# Altium schematic symbol library kmilo17pet-LT_ChargePump.SchLib: 599 symbols (part 1 of 29)
Pins are listed as number, name and electrical type; pins without a type are passive.

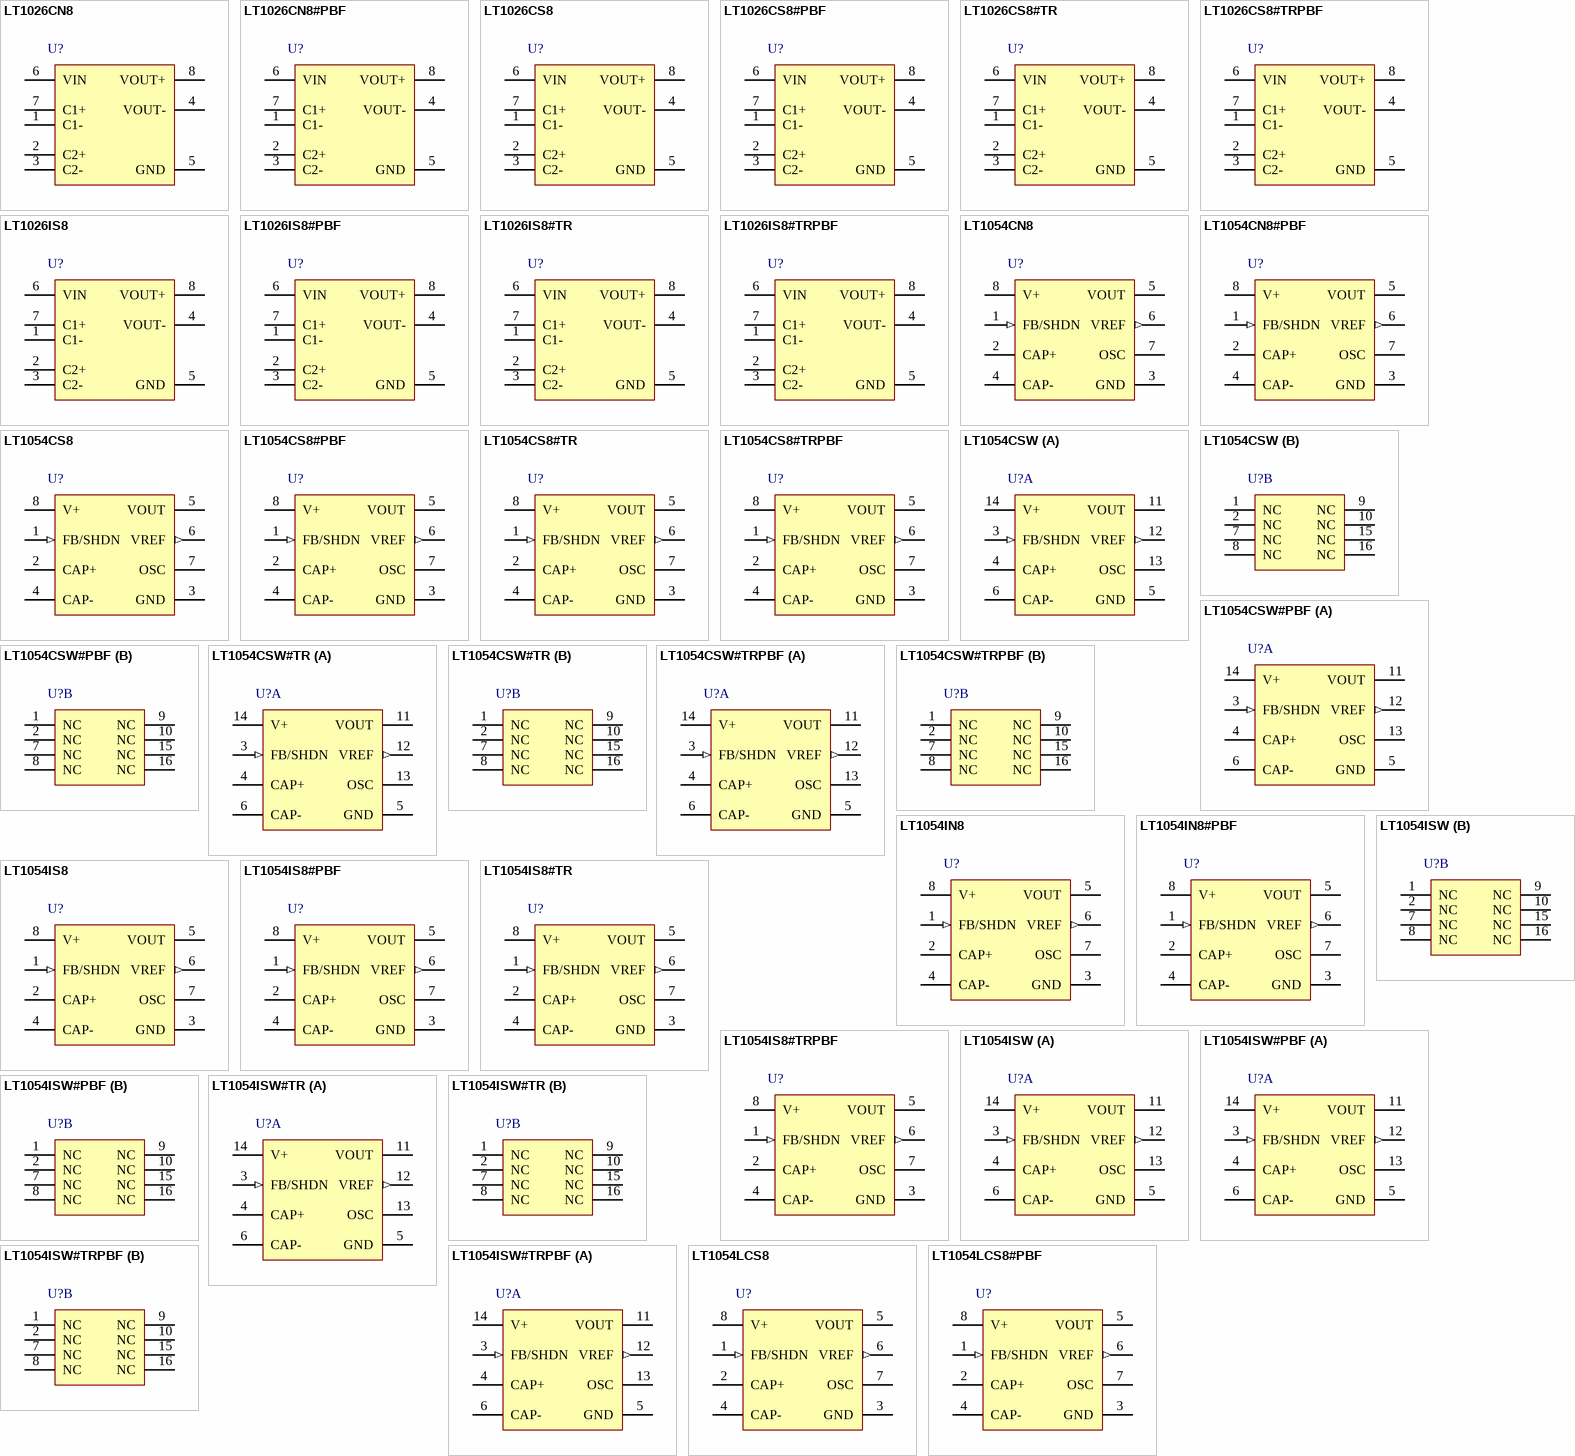
[diagram p0: symbols LT1026CN8 to LT1054LCS8#PBF]

## LT1026CN8
designator U?
Voltage Converter, 4 to 10 V Vin, 8-pin DIP (N8-8), 0 to 70 degC; Manufacturer: Linear Technology; PartNumber: LT1026CN8; Ishutdown(uA): 1; Isupply(mA): 7; Max Iout(mA): 15; Vin Max(V): 10; Vin Min(V): 4; Voutput: 2Vin, -2Vin; DatasheetVersion: Rev. B; PackageVersion: Rev. I, 07/2011; PackageReference: N8-8; PackageDescription: 8-Pin PDIP, Body 10.16 x 6.48 mm, Pitch 2.54 mm; Supplier 1: Digi-Key; Supplier Part Number 1: LT1026CN8-ND; RoHS: FALSE; Mounting Technology: Through Hole; ComponentLink1Description: Manufacturer URL; ComponentLink1URL: http://www.linear.com/; ComponentLink2Description: Datasheet; ComponentLink2URL: http://cds.linear.com/docs/en/datasheet/1026fb.pdf; ComponentLink3Description: Package Specification; ComponentLink3URL: http://www.linear.com/docs/en/packaging/05081510_I_N8.pdf
footprint LT-N8-8 (DIP, 8-Leads, Body 10.15x6.85mm, Pitch 2.54mm)
pins: 1 C1-, 2 C2+, 3 C2-, 4 VOUT- (power), 5 GND (power), 6 VIN (power), 7 C1+, 8 VOUT+ (power)

## LT1026CN8#PBF
designator U?
Voltage Converter, 4 to 10 V Vin, 8-pin DIP (N8-8), 0 to 70 degC, Pb-Free; Manufacturer: Linear Technology; PartNumber: LT1026CN8#PBF; Ishutdown(uA): 1; Isupply(mA): 7; Max Iout(mA): 15; Vin Max(V): 10; Vin Min(V): 4; Voutput: 2Vin, -2Vin; DatasheetVersion: Rev. B; PackageVersion: Rev. I, 07/2011; PackageReference: N8-8; PackageDescription: 8-Pin PDIP, Body 10.16 x 6.48 mm, Pitch 2.54 mm; Supplier 1: Digi-Key; Supplier Part Number 1: LT1026CN8#PBF-ND; Supplier 2: Farnell; Supplier Part Number 2: 1663336; Supplier 3: Newark; Supplier Part Number 3: 57M1023; RoHS: TRUE; Mounting Technology: Through Hole; ComponentLink1Description: Manufacturer URL; ComponentLink1URL: http://www.linear.com/; ComponentLink2Description: Datasheet; ComponentLink2URL: http://cds.linear.com/docs/en/datasheet/1026fb.pdf; ComponentLink3Description: Package Specification; ComponentLink3URL: http://www.linear.com/docs/en/packaging/05081510_I_N8.pdf
footprint LT-N8-8 (DIP, 8-Leads, Body 10.15x6.85mm, Pitch 2.54mm)
pins: 1 C1-, 2 C2+, 3 C2-, 4 VOUT- (power), 5 GND (power), 6 VIN (power), 7 C1+, 8 VOUT+ (power)

## LT1026CS8
designator U?
Voltage Converter, 4 to 10 V Vin, 8-pin SOIC (S8-8), 0 to 70 degC; Manufacturer: Linear Technology; PartNumber: LT1026CS8; Ishutdown(uA): 1; Isupply(mA): 7; Max Iout(mA): 15; Vin Max(V): 10; Vin Min(V): 4; Voutput: 2Vin, -2Vin; DatasheetVersion: Rev. B; PackageVersion: Rev. G, 03/2012; PackageReference: S8-8; PackageDescription: 8-Pin Plastic Small Outline (Narrow .150 Inch), Body 4.9 x 3.9 mm, Pitch 1.27 mm; Supplier 1: Digi-Key; Supplier Part Number 1: LT1026CS8-ND; RoHS: FALSE; Mounting Technology: Surface Mount; ComponentLink1Description: Manufacturer URL; ComponentLink1URL: http://www.linear.com/; ComponentLink2Description: Datasheet; ComponentLink2URL: http://cds.linear.com/docs/en/datasheet/1026fb.pdf; ComponentLink3Description: Package Specification; ComponentLink3URL: http://cds.linear.com/docs/en/packaging/05081610_G_SO8.pdf
footprint LT-S8-8_N (SOIC, 8-Leads, Body 5x4mm, Pitch 1.27mm, IPC Medium Density)
footprint LT-S8-8_L (SOIC, 8-Leads, Body 5x4mm, Pitch 1.27mm, IPC High Density)
footprint LT-S8-8_M (SOIC, 8-Leads, Body 5x4mm, Pitch 1.27mm, IPC Low Density)
pins: 1 C1-, 2 C2+, 3 C2-, 4 VOUT- (power), 5 GND (power), 6 VIN (power), 7 C1+, 8 VOUT+ (power)

## LT1026CS8#PBF
designator U?
Voltage Converter, 4 to 10 V Vin, 8-pin SOIC (S8-8), 0 to 70 degC, Pb-Free; Manufacturer: Linear Technology; PartNumber: LT1026CS8#PBF; Ishutdown(uA): 1; Isupply(mA): 7; Max Iout(mA): 15; Vin Max(V): 10; Vin Min(V): 4; Voutput: 2Vin, -2Vin; DatasheetVersion: Rev. B; PackageVersion: Rev. G, 03/2012; PackageReference: S8-8; PackageDescription: 8-Pin Plastic Small Outline (Narrow .150 Inch), Body 4.9 x 3.9 mm, Pitch 1.27 mm; Supplier 1: Digi-Key; Supplier Part Number 1: LT1026CS8#PBF-ND; Supplier 2: Farnell; Supplier Part Number 2: 1273660; Supplier 3: Newark; Supplier Part Number 3: 57M1025; RoHS: TRUE; Mounting Technology: Surface Mount; ComponentLink1Description: Manufacturer URL; ComponentLink1URL: http://www.linear.com/; ComponentLink2Description: Datasheet; ComponentLink2URL: http://cds.linear.com/docs/en/datasheet/1026fb.pdf; ComponentLink3Description: Package Specification; ComponentLink3URL: http://cds.linear.com/docs/en/packaging/05081610_G_SO8.pdf
footprint LT-S8-8_N (SOIC, 8-Leads, Body 5x4mm, Pitch 1.27mm, IPC Medium Density)
footprint LT-S8-8_L (SOIC, 8-Leads, Body 5x4mm, Pitch 1.27mm, IPC High Density)
footprint LT-S8-8_M (SOIC, 8-Leads, Body 5x4mm, Pitch 1.27mm, IPC Low Density)
pins: 1 C1-, 2 C2+, 3 C2-, 4 VOUT- (power), 5 GND (power), 6 VIN (power), 7 C1+, 8 VOUT+ (power)

## LT1026CS8#TR
designator U?
Voltage Converter, 4 to 10 V Vin, 8-pin SOIC (S8-8), 0 to 70 degC, Tape and Reel; Manufacturer: Linear Technology; PartNumber: LT1026CS8#TR; Ishutdown(uA): 1; Isupply(mA): 7; Max Iout(mA): 15; Vin Max(V): 10; Vin Min(V): 4; Voutput: 2Vin, -2Vin; DatasheetVersion: Rev. B; PackageVersion: Rev. G, 03/2012; PackageReference: S8-8; PackageDescription: 8-Pin Plastic Small Outline (Narrow .150 Inch), Body 4.9 x 3.9 mm, Pitch 1.27 mm; Supplier 1: Digi-Key; Supplier Part Number 1: LT1026CS8#TR-ND; Packing: Tape and Reel; RoHS: FALSE; Mounting Technology: Surface Mount; ComponentLink1Description: Manufacturer URL; ComponentLink1URL: http://www.linear.com/; ComponentLink2Description: Datasheet; ComponentLink2URL: http://cds.linear.com/docs/en/datasheet/1026fb.pdf; ComponentLink3Description: Package Specification; ComponentLink3URL: http://cds.linear.com/docs/en/packaging/05081610_G_SO8.pdf
footprint LT-S8-8_N (SOIC, 8-Leads, Body 5x4mm, Pitch 1.27mm, IPC Medium Density)
footprint LT-S8-8_L (SOIC, 8-Leads, Body 5x4mm, Pitch 1.27mm, IPC High Density)
footprint LT-S8-8_M (SOIC, 8-Leads, Body 5x4mm, Pitch 1.27mm, IPC Low Density)
pins: 1 C1-, 2 C2+, 3 C2-, 4 VOUT- (power), 5 GND (power), 6 VIN (power), 7 C1+, 8 VOUT+ (power)

## LT1026CS8#TRPBF
designator U?
Voltage Converter, 4 to 10 V Vin, 8-pin SOIC (S8-8), 0 to 70 degC, Pb-Free, Tape and Reel; Manufacturer: Linear Technology; PartNumber: LT1026CS8#TRPBF; Ishutdown(uA): 1; Isupply(mA): 7; Max Iout(mA): 15; Vin Max(V): 10; Vin Min(V): 4; Voutput: 2Vin, -2Vin; DatasheetVersion: Rev. B; PackageVersion: Rev. G, 03/2012; PackageReference: S8-8; PackageDescription: 8-Pin Plastic Small Outline (Narrow .150 Inch), Body 4.9 x 3.9 mm, Pitch 1.27 mm; Supplier 1: Digi-Key; Supplier Part Number 1: LT1026CS8#TRPBF-ND; Packing: Tape and Reel; RoHS: TRUE; Mounting Technology: Surface Mount; ComponentLink1Description: Manufacturer URL; ComponentLink1URL: http://www.linear.com/; ComponentLink2Description: Datasheet; ComponentLink2URL: http://cds.linear.com/docs/en/datasheet/1026fb.pdf; ComponentLink3Description: Package Specification; ComponentLink3URL: http://cds.linear.com/docs/en/packaging/05081610_G_SO8.pdf
footprint LT-S8-8_N (SOIC, 8-Leads, Body 5x4mm, Pitch 1.27mm, IPC Medium Density)
footprint LT-S8-8_L (SOIC, 8-Leads, Body 5x4mm, Pitch 1.27mm, IPC High Density)
footprint LT-S8-8_M (SOIC, 8-Leads, Body 5x4mm, Pitch 1.27mm, IPC Low Density)
pins: 1 C1-, 2 C2+, 3 C2-, 4 VOUT- (power), 5 GND (power), 6 VIN (power), 7 C1+, 8 VOUT+ (power)

## LT1026IS8
designator U?
Voltage Converter, 4 to 10 V Vin, 8-pin SOIC (S8-8), -40 to 85 degC; Manufacturer: Linear Technology; PartNumber: LT1026IS8; Ishutdown(uA): 1; Isupply(mA): 7; Max Iout(mA): 15; Vin Max(V): 10; Vin Min(V): 4; Voutput: 2Vin, -2Vin; DatasheetVersion: Rev. B; PackageVersion: Rev. G, 03/2012; PackageReference: S8-8; PackageDescription: 8-Pin Plastic Small Outline (Narrow .150 Inch), Body 4.9 x 3.9 mm, Pitch 1.27 mm; Supplier 1: Digi-Key; Supplier Part Number 1: LT1026IS8-ND; Supplier 2: Newark; Supplier Part Number 2: 57M1028; RoHS: FALSE; Mounting Technology: Surface Mount; ComponentLink1Description: Manufacturer URL; ComponentLink1URL: http://www.linear.com/; ComponentLink2Description: Datasheet; ComponentLink2URL: http://cds.linear.com/docs/en/datasheet/1026fb.pdf; ComponentLink3Description: Package Specification; ComponentLink3URL: http://cds.linear.com/docs/en/packaging/05081610_G_SO8.pdf
footprint LT-S8-8_N (SOIC, 8-Leads, Body 5x4mm, Pitch 1.27mm, IPC Medium Density)
footprint LT-S8-8_L (SOIC, 8-Leads, Body 5x4mm, Pitch 1.27mm, IPC High Density)
footprint LT-S8-8_M (SOIC, 8-Leads, Body 5x4mm, Pitch 1.27mm, IPC Low Density)
pins: 1 C1-, 2 C2+, 3 C2-, 4 VOUT- (power), 5 GND (power), 6 VIN (power), 7 C1+, 8 VOUT+ (power)

## LT1026IS8#PBF
designator U?
Voltage Converter, 4 to 10 V Vin, 8-pin SOIC (S8-8), -40 to 85 degC, Pb-Free; Manufacturer: Linear Technology; PartNumber: LT1026IS8#PBF; Ishutdown(uA): 1; Isupply(mA): 7; Max Iout(mA): 15; Vin Max(V): 10; Vin Min(V): 4; Voutput: 2Vin, -2Vin; DatasheetVersion: Rev. B; PackageVersion: Rev. G, 03/2012; PackageReference: S8-8; PackageDescription: 8-Pin Plastic Small Outline (Narrow .150 Inch), Body 4.9 x 3.9 mm, Pitch 1.27 mm; Supplier 1: Digi-Key; Supplier Part Number 1: LT1026IS8#PBF-ND; Supplier 2: Newark; Supplier Part Number 2: 57M1029; RoHS: TRUE; Mounting Technology: Surface Mount; ComponentLink1Description: Manufacturer URL; ComponentLink1URL: http://www.linear.com/; ComponentLink2Description: Datasheet; ComponentLink2URL: http://cds.linear.com/docs/en/datasheet/1026fb.pdf; ComponentLink3Description: Package Specification; ComponentLink3URL: http://cds.linear.com/docs/en/packaging/05081610_G_SO8.pdf
footprint LT-S8-8_N (SOIC, 8-Leads, Body 5x4mm, Pitch 1.27mm, IPC Medium Density)
footprint LT-S8-8_L (SOIC, 8-Leads, Body 5x4mm, Pitch 1.27mm, IPC High Density)
footprint LT-S8-8_M (SOIC, 8-Leads, Body 5x4mm, Pitch 1.27mm, IPC Low Density)
pins: 1 C1-, 2 C2+, 3 C2-, 4 VOUT- (power), 5 GND (power), 6 VIN (power), 7 C1+, 8 VOUT+ (power)

## LT1026IS8#TR
designator U?
Voltage Converter, 4 to 10 V Vin, 8-pin SOIC (S8-8), -40 to 85 degC, Tape and Reel; Manufacturer: Linear Technology; PartNumber: LT1026IS8#TR; Ishutdown(uA): 1; Isupply(mA): 7; Max Iout(mA): 15; Vin Max(V): 10; Vin Min(V): 4; Voutput: 2Vin, -2Vin; DatasheetVersion: Rev. B; PackageVersion: Rev. G, 03/2012; PackageReference: S8-8; PackageDescription: 8-Pin Plastic Small Outline (Narrow .150 Inch), Body 4.9 x 3.9 mm, Pitch 1.27 mm; Supplier 1: Digi-Key; Supplier Part Number 1: LT1026IS8#TR-ND; Packing: Tape and Reel; RoHS: FALSE; Mounting Technology: Surface Mount; ComponentLink1Description: Manufacturer URL; ComponentLink1URL: http://www.linear.com/; ComponentLink2Description: Datasheet; ComponentLink2URL: http://cds.linear.com/docs/en/datasheet/1026fb.pdf; ComponentLink3Description: Package Specification; ComponentLink3URL: http://cds.linear.com/docs/en/packaging/05081610_G_SO8.pdf
footprint LT-S8-8_N (SOIC, 8-Leads, Body 5x4mm, Pitch 1.27mm, IPC Medium Density)
footprint LT-S8-8_L (SOIC, 8-Leads, Body 5x4mm, Pitch 1.27mm, IPC High Density)
footprint LT-S8-8_M (SOIC, 8-Leads, Body 5x4mm, Pitch 1.27mm, IPC Low Density)
pins: 1 C1-, 2 C2+, 3 C2-, 4 VOUT- (power), 5 GND (power), 6 VIN (power), 7 C1+, 8 VOUT+ (power)

## LT1026IS8#TRPBF
designator U?
Voltage Converter, 4 to 10 V Vin, 8-pin SOIC (S8-8), -40 to 85 degC, Pb-Free, Tape and Reel; Manufacturer: Linear Technology; PartNumber: LT1026IS8#TRPBF; Ishutdown(uA): 1; Isupply(mA): 7; Max Iout(mA): 15; Vin Max(V): 10; Vin Min(V): 4; Voutput: 2Vin, -2Vin; DatasheetVersion: Rev. B; PackageVersion: Rev. G, 03/2012; PackageReference: S8-8; PackageDescription: 8-Pin Plastic Small Outline (Narrow .150 Inch), Body 4.9 x 3.9 mm, Pitch 1.27 mm; Supplier 1: Digi-Key; Supplier Part Number 1: LT1026IS8#TRPBF-ND; Packing: Tape and Reel; RoHS: TRUE; Mounting Technology: Surface Mount; ComponentLink1Description: Manufacturer URL; ComponentLink1URL: http://www.linear.com/; ComponentLink2Description: Datasheet; ComponentLink2URL: http://cds.linear.com/docs/en/datasheet/1026fb.pdf; ComponentLink3Description: Package Specification; ComponentLink3URL: http://cds.linear.com/docs/en/packaging/05081610_G_SO8.pdf
footprint LT-S8-8_N (SOIC, 8-Leads, Body 5x4mm, Pitch 1.27mm, IPC Medium Density)
footprint LT-S8-8_L (SOIC, 8-Leads, Body 5x4mm, Pitch 1.27mm, IPC High Density)
footprint LT-S8-8_M (SOIC, 8-Leads, Body 5x4mm, Pitch 1.27mm, IPC Low Density)
pins: 1 C1-, 2 C2+, 3 C2-, 4 VOUT- (power), 5 GND (power), 6 VIN (power), 7 C1+, 8 VOUT+ (power)

## LT1054CN8
designator U?
Switched-Capacitor Voltage Converter with Regulator, 3.5 to 15 V Vin, Adjustable Vout, 8-pin DIP (N8-8), 0 to 100 degC; Manufacturer: Linear Technology; PartNumber: LT1054CN8; Frequency(kHz): 25; Ishutdown(uA): 100; Isupply(mA): 2.5; Vin Max(V): 15; Vin Min(V): 3.5; Voutput: Adj; DatasheetVersion: Rev. G; PackageVersion: Rev. I, 07/2011; PackageReference: N8-8; PackageDescription: 8-Pin PDIP, Body 10.16 x 6.48 mm, Pitch 2.54 mm; Supplier 1: Digi-Key; Supplier Part Number 1: LT1054CN8-ND; Supplier 2: Newark; Supplier Part Number 2: 57M1181; Max Iout(mA): 100; RoHS: FALSE; Mounting Technology: Through Hole; ComponentLink1Description: Manufacturer URL; ComponentLink1URL: http://www.linear.com/; ComponentLink2Description: Datasheet; ComponentLink2URL: http://cds.linear.com/docs/en/datasheet/1054lfg.pdf; ComponentLink3Description: Package Specification; ComponentLink3URL: http://www.linear.com/docs/en/packaging/05081510_I_N8.pdf
footprint LT-N8-8 (DIP, 8-Leads, Body 10.15x6.85mm, Pitch 2.54mm)
pins: 1 FB/SHDN (in), 2 CAP+ "Pin 2, the positive side of the input capacitor (CIN), is alternately driven between V + and ground. When driven to V+, Pin 2 sources current from V+. When driven to ground Pin 2 sinks current to ground. Pin 4, the negative (See Datasheet)", 3 GND (power), 4 CAP- "Pin 2, the positive side of the input capacitor (CIN), is alternately driven between V + and ground. When driven to V+, Pin 2 sources current from V+. When driven to ground Pin 2 sinks current to ground. Pin 4, the negative (See Datasheet)", 5 VOUT (power) "In addition to being the output pin this pin is also tied to the substrate of the device. Special care must be taken in LT1054 circuits to avoid pulling this pin positive with respect to any of the other pins. Pulling Pin 5 (See Datasheet)", 6 VREF (out) "Reference Output. This pin provides a 2.5V reference point for use in LT1054-based regulator circuits. The temperature coefficient of the reference voltage has been adjusted so that the temperature coefficient of the (See Datasheet)", 7 OSC "Oscillator Pin. This pin can be used to raise or lower the oscillator frequency or to synchronize the device to an external clock. Internally Pin 7 is connected to the oscillator timing capacitor (Ct  approx= 150pF) which is (See Datasheet)", 8 V+ (power) "Input Supply. The LT1054 alternately charges CIN to the input voltage when CIN is switched in parallel with the input supply and then transfers charge to COUT when CIN is switched in parallel with COUT. Switching occurs at (See Datasheet)"

## LT1054CN8#PBF
designator U?
Switched-Capacitor Voltage Converter with Regulator, 3.5 to 15 V Vin, Adjustable Vout, 8-pin DIP (N8-8), 0 to 100 degC, Pb-Free; Manufacturer: Linear Technology; PartNumber: LT1054CN8#PBF; Frequency(kHz): 25; Ishutdown(uA): 100; Isupply(mA): 2.5; Vin Max(V): 15; Vin Min(V): 3.5; Voutput: Adj; DatasheetVersion: Rev. G; PackageVersion: Rev. I, 07/2011; PackageReference: N8-8; PackageDescription: 8-Pin PDIP, Body 10.16 x 6.48 mm, Pitch 2.54 mm; Supplier 1: Digi-Key; Supplier Part Number 1: LT1054CN8#PBF-ND; Supplier 2: Farnell; Supplier Part Number 2: 9559515; Supplier 3: Newark; Supplier Part Number 3: 57M1182; Max Iout(mA): 100; RoHS: TRUE; Mounting Technology: Through Hole; ComponentLink1Description: Manufacturer URL; ComponentLink1URL: http://www.linear.com/; ComponentLink2Description: Datasheet; ComponentLink2URL: http://cds.linear.com/docs/en/datasheet/1054lfg.pdf; ComponentLink3Description: Package Specification; ComponentLink3URL: http://www.linear.com/docs/en/packaging/05081510_I_N8.pdf
footprint LT-N8-8 (DIP, 8-Leads, Body 10.15x6.85mm, Pitch 2.54mm)
pins: 1 FB/SHDN (in), 2 CAP+ "Pin 2, the positive side of the input capacitor (CIN), is alternately driven between V + and ground. When driven to V+, Pin 2 sources current from V+. When driven to ground Pin 2 sinks current to ground. Pin 4, the negative (See Datasheet)", 3 GND (power), 4 CAP- "Pin 2, the positive side of the input capacitor (CIN), is alternately driven between V + and ground. When driven to V+, Pin 2 sources current from V+. When driven to ground Pin 2 sinks current to ground. Pin 4, the negative (See Datasheet)", 5 VOUT (power) "In addition to being the output pin this pin is also tied to the substrate of the device. Special care must be taken in LT1054 circuits to avoid pulling this pin positive with respect to any of the other pins. Pulling Pin 5 (See Datasheet)", 6 VREF (out) "Reference Output. This pin provides a 2.5V reference point for use in LT1054-based regulator circuits. The temperature coefficient of the reference voltage has been adjusted so that the temperature coefficient of the (See Datasheet)", 7 OSC "Oscillator Pin. This pin can be used to raise or lower the oscillator frequency or to synchronize the device to an external clock. Internally Pin 7 is connected to the oscillator timing capacitor (Ct  approx= 150pF) which is (See Datasheet)", 8 V+ (power) "Input Supply. The LT1054 alternately charges CIN to the input voltage when CIN is switched in parallel with the input supply and then transfers charge to COUT when CIN is switched in parallel with COUT. Switching occurs at (See Datasheet)"

## LT1054CS8
designator U?
Switched-Capacitor Voltage Converter with Regulator, 3.5 to 15 V Vin, Adjustable Vout, 8-pin SOIC (S8-8), 0 to 100 degC; Manufacturer: Linear Technology; PartNumber: LT1054CS8; Frequency(kHz): 25; Ishutdown(uA): 100; Isupply(mA): 2.5; Vin Max(V): 15; Vin Min(V): 3.5; Voutput: Adj; DatasheetVersion: Rev. G; PackageVersion: Rev. G, 03/2012; PackageReference: S8-8; PackageDescription: 8-Pin Plastic Small Outline (Narrow .150 Inch), Body 4.9 x 3.9 mm, Pitch 1.27 mm; Supplier 1: Digi-Key; Supplier Part Number 1: LT1054CS8-ND; Supplier 2: Newark; Supplier Part Number 2: 57M1187; Max Iout(mA): 100; RoHS: FALSE; Mounting Technology: Surface Mount; ComponentLink1Description: Manufacturer URL; ComponentLink1URL: http://www.linear.com/; ComponentLink2Description: Datasheet; ComponentLink2URL: http://cds.linear.com/docs/en/datasheet/1054lfg.pdf; ComponentLink3Description: Package Specification; ComponentLink3URL: http://cds.linear.com/docs/en/packaging/05081610_G_SO8.pdf
footprint LT-S8-8_N (SOIC, 8-Leads, Body 5x4mm, Pitch 1.27mm, IPC Medium Density)
footprint LT-S8-8_L (SOIC, 8-Leads, Body 5x4mm, Pitch 1.27mm, IPC High Density)
footprint LT-S8-8_M (SOIC, 8-Leads, Body 5x4mm, Pitch 1.27mm, IPC Low Density)
pins: 1 FB/SHDN (in), 2 CAP+ "Pin 2, the positive side of the input capacitor (CIN), is alternately driven between V + and ground. When driven to V+, Pin 2 sources current from V+. When driven to ground Pin 2 sinks current to ground. Pin 4, the negative (See Datasheet)", 3 GND (power), 4 CAP- "Pin 2, the positive side of the input capacitor (CIN), is alternately driven between V + and ground. When driven to V+, Pin 2 sources current from V+. When driven to ground Pin 2 sinks current to ground. Pin 4, the negative (See Datasheet)", 5 VOUT (power) "In addition to being the output pin this pin is also tied to the substrate of the device. Special care must be taken in LT1054 circuits to avoid pulling this pin positive with respect to any of the other pins. Pulling Pin 5 (See Datasheet)", 6 VREF (out) "Reference Output. This pin provides a 2.5V reference point for use in LT1054-based regulator circuits. The temperature coefficient of the reference voltage has been adjusted so that the temperature coefficient of the (See Datasheet)", 7 OSC "Oscillator Pin. This pin can be used to raise or lower the oscillator frequency or to synchronize the device to an external clock. Internally Pin 7 is connected to the oscillator timing capacitor (Ct  approx= 150pF) which is (See Datasheet)", 8 V+ (power) "Input Supply. The LT1054 alternately charges CIN to the input voltage when CIN is switched in parallel with the input supply and then transfers charge to COUT when CIN is switched in parallel with COUT. Switching occurs at (See Datasheet)"

## LT1054CS8#PBF
designator U?
Switched-Capacitor Voltage Converter with Regulator, 3.5 to 15 V Vin, Adjustable Vout, 8-pin SOIC (S8-8), 0 to 100 degC, Pb-Free; Manufacturer: Linear Technology; PartNumber: LT1054CS8#PBF; Frequency(kHz): 25; Ishutdown(uA): 100; Isupply(mA): 2.5; Vin Max(V): 15; Vin Min(V): 3.5; Voutput: Adj; DatasheetVersion: Rev. G; PackageVersion: Rev. G, 03/2012; PackageReference: S8-8; PackageDescription: 8-Pin Plastic Small Outline (Narrow .150 Inch), Body 4.9 x 3.9 mm, Pitch 1.27 mm; Supplier 1: Digi-Key; Supplier Part Number 1: LT1054CS8#PBF-ND; Supplier 2: Farnell; Supplier Part Number 2: 9559523; Supplier 3: Newark; Supplier Part Number 3: 57M1188; Max Iout(mA): 100; RoHS: TRUE; Mounting Technology: Surface Mount; ComponentLink1Description: Manufacturer URL; ComponentLink1URL: http://www.linear.com/; ComponentLink2Description: Datasheet; ComponentLink2URL: http://cds.linear.com/docs/en/datasheet/1054lfg.pdf; ComponentLink3Description: Package Specification; ComponentLink3URL: http://cds.linear.com/docs/en/packaging/05081610_G_SO8.pdf
footprint LT-S8-8_N (SOIC, 8-Leads, Body 5x4mm, Pitch 1.27mm, IPC Medium Density)
footprint LT-S8-8_L (SOIC, 8-Leads, Body 5x4mm, Pitch 1.27mm, IPC High Density)
footprint LT-S8-8_M (SOIC, 8-Leads, Body 5x4mm, Pitch 1.27mm, IPC Low Density)
pins: 1 FB/SHDN (in), 2 CAP+ "Pin 2, the positive side of the input capacitor (CIN), is alternately driven between V + and ground. When driven to V+, Pin 2 sources current from V+. When driven to ground Pin 2 sinks current to ground. Pin 4, the negative (See Datasheet)", 3 GND (power), 4 CAP- "Pin 2, the positive side of the input capacitor (CIN), is alternately driven between V + and ground. When driven to V+, Pin 2 sources current from V+. When driven to ground Pin 2 sinks current to ground. Pin 4, the negative (See Datasheet)", 5 VOUT (power) "In addition to being the output pin this pin is also tied to the substrate of the device. Special care must be taken in LT1054 circuits to avoid pulling this pin positive with respect to any of the other pins. Pulling Pin 5 (See Datasheet)", 6 VREF (out) "Reference Output. This pin provides a 2.5V reference point for use in LT1054-based regulator circuits. The temperature coefficient of the reference voltage has been adjusted so that the temperature coefficient of the (See Datasheet)", 7 OSC "Oscillator Pin. This pin can be used to raise or lower the oscillator frequency or to synchronize the device to an external clock. Internally Pin 7 is connected to the oscillator timing capacitor (Ct  approx= 150pF) which is (See Datasheet)", 8 V+ (power) "Input Supply. The LT1054 alternately charges CIN to the input voltage when CIN is switched in parallel with the input supply and then transfers charge to COUT when CIN is switched in parallel with COUT. Switching occurs at (See Datasheet)"

## LT1054CS8#TR
designator U?
Switched-Capacitor Voltage Converter with Regulator, 3.5 to 15 V Vin, Adjustable Vout, 8-pin SOIC (S8-8), 0 to 100 degC, Tape and Reel; Manufacturer: Linear Technology; PartNumber: LT1054CS8#TR; Frequency(kHz): 25; Ishutdown(uA): 100; Isupply(mA): 2.5; Vin Max(V): 15; Vin Min(V): 3.5; Voutput: Adj; DatasheetVersion: Rev. G; PackageVersion: Rev. G, 03/2012; PackageReference: S8-8; PackageDescription: 8-Pin Plastic Small Outline (Narrow .150 Inch), Body 4.9 x 3.9 mm, Pitch 1.27 mm; Supplier 1: Digi-Key; Supplier Part Number 1: LT1054CS8TR-ND; Max Iout(mA): 100; Packing: Tape and Reel; RoHS: FALSE; Mounting Technology: Surface Mount; ComponentLink1Description: Manufacturer URL; ComponentLink1URL: http://www.linear.com/; ComponentLink2Description: Datasheet; ComponentLink2URL: http://cds.linear.com/docs/en/datasheet/1054lfg.pdf; ComponentLink3Description: Package Specification; ComponentLink3URL: http://cds.linear.com/docs/en/packaging/05081610_G_SO8.pdf
footprint LT-S8-8_N (SOIC, 8-Leads, Body 5x4mm, Pitch 1.27mm, IPC Medium Density)
footprint LT-S8-8_L (SOIC, 8-Leads, Body 5x4mm, Pitch 1.27mm, IPC High Density)
footprint LT-S8-8_M (SOIC, 8-Leads, Body 5x4mm, Pitch 1.27mm, IPC Low Density)
pins: 1 FB/SHDN (in), 2 CAP+ "Pin 2, the positive side of the input capacitor (CIN), is alternately driven between V + and ground. When driven to V+, Pin 2 sources current from V+. When driven to ground Pin 2 sinks current to ground. Pin 4, the negative (See Datasheet)", 3 GND (power), 4 CAP- "Pin 2, the positive side of the input capacitor (CIN), is alternately driven between V + and ground. When driven to V+, Pin 2 sources current from V+. When driven to ground Pin 2 sinks current to ground. Pin 4, the negative (See Datasheet)", 5 VOUT (power) "In addition to being the output pin this pin is also tied to the substrate of the device. Special care must be taken in LT1054 circuits to avoid pulling this pin positive with respect to any of the other pins. Pulling Pin 5 (See Datasheet)", 6 VREF (out) "Reference Output. This pin provides a 2.5V reference point for use in LT1054-based regulator circuits. The temperature coefficient of the reference voltage has been adjusted so that the temperature coefficient of the (See Datasheet)", 7 OSC "Oscillator Pin. This pin can be used to raise or lower the oscillator frequency or to synchronize the device to an external clock. Internally Pin 7 is connected to the oscillator timing capacitor (Ct  approx= 150pF) which is (See Datasheet)", 8 V+ (power) "Input Supply. The LT1054 alternately charges CIN to the input voltage when CIN is switched in parallel with the input supply and then transfers charge to COUT when CIN is switched in parallel with COUT. Switching occurs at (See Datasheet)"

## LT1054CS8#TRPBF
designator U?
Switched-Capacitor Voltage Converter with Regulator, 3.5 to 15 V Vin, Adjustable Vout, 8-pin SOIC (S8-8), 0 to 100 degC, Pb-Free, Tape and Reel; Manufacturer: Linear Technology; PartNumber: LT1054CS8#TRPBF; Frequency(kHz): 25; Ishutdown(uA): 100; Isupply(mA): 2.5; Vin Max(V): 15; Vin Min(V): 3.5; Voutput: Adj; DatasheetVersion: Rev. G; PackageVersion: Rev. G, 03/2012; PackageReference: S8-8; PackageDescription: 8-Pin Plastic Small Outline (Narrow .150 Inch), Body 4.9 x 3.9 mm, Pitch 1.27 mm; Supplier 1: Digi-Key; Supplier Part Number 1: LT1054CS8#TRPBF-ND; Supplier 2: Newark; Supplier Part Number 2: 57M1190; Max Iout(mA): 100; Packing: Tape and Reel; RoHS: TRUE; Mounting Technology: Surface Mount; ComponentLink1Description: Manufacturer URL; ComponentLink1URL: http://www.linear.com/; ComponentLink2Description: Datasheet; ComponentLink2URL: http://cds.linear.com/docs/en/datasheet/1054lfg.pdf; ComponentLink3Description: Package Specification; ComponentLink3URL: http://cds.linear.com/docs/en/packaging/05081610_G_SO8.pdf
footprint LT-S8-8_N (SOIC, 8-Leads, Body 5x4mm, Pitch 1.27mm, IPC Medium Density)
footprint LT-S8-8_L (SOIC, 8-Leads, Body 5x4mm, Pitch 1.27mm, IPC High Density)
footprint LT-S8-8_M (SOIC, 8-Leads, Body 5x4mm, Pitch 1.27mm, IPC Low Density)
pins: 1 FB/SHDN (in), 2 CAP+ "Pin 2, the positive side of the input capacitor (CIN), is alternately driven between V + and ground. When driven to V+, Pin 2 sources current from V+. When driven to ground Pin 2 sinks current to ground. Pin 4, the negative (See Datasheet)", 3 GND (power), 4 CAP- "Pin 2, the positive side of the input capacitor (CIN), is alternately driven between V + and ground. When driven to V+, Pin 2 sources current from V+. When driven to ground Pin 2 sinks current to ground. Pin 4, the negative (See Datasheet)", 5 VOUT (power) "In addition to being the output pin this pin is also tied to the substrate of the device. Special care must be taken in LT1054 circuits to avoid pulling this pin positive with respect to any of the other pins. Pulling Pin 5 (See Datasheet)", 6 VREF (out) "Reference Output. This pin provides a 2.5V reference point for use in LT1054-based regulator circuits. The temperature coefficient of the reference voltage has been adjusted so that the temperature coefficient of the (See Datasheet)", 7 OSC "Oscillator Pin. This pin can be used to raise or lower the oscillator frequency or to synchronize the device to an external clock. Internally Pin 7 is connected to the oscillator timing capacitor (Ct  approx= 150pF) which is (See Datasheet)", 8 V+ (power) "Input Supply. The LT1054 alternately charges CIN to the input voltage when CIN is switched in parallel with the input supply and then transfers charge to COUT when CIN is switched in parallel with COUT. Switching occurs at (See Datasheet)"

## LT1054CSW
designator U?
Switched-Capacitor Voltage Converter with Regulator, 3.5 to 15 V Vin, Adjustable Vout, 16-pin SOIC (SW-16), 0 to 100 degC; Manufacturer: Linear Technology; PartNumber: LT1054CSW; Frequency(kHz): 25; Ishutdown(uA): 100; Isupply(mA): 2.5; Vin Max(V): 15; Vin Min(V): 3.5; Voutput: Adj; DatasheetVersion: Rev. G; PackageVersion: Jun-10; PackageReference: SW-16; PackageDescription: 16-Pin Plastic Small Outline, Body 10.30 x 7.49 mm, Pitch 1.27 mm; Supplier 1: Digi-Key; Supplier Part Number 1: LT1054CSW-ND; Max Iout(mA): 100; RoHS: FALSE; Mounting Technology: Surface Mount; ComponentLink1Description: Manufacturer URL; ComponentLink1URL: http://www.linear.com/; ComponentLink2Description: Datasheet; ComponentLink2URL: http://cds.linear.com/docs/en/datasheet/1054lfg.pdf; ComponentLink3Description: Package Specification; ComponentLink3URL: http://www.linear.com/docs/en/packaging/SO_16_05-08-1620.pdf
footprint LT-SW-16_N (SOIC, 16-Leads, Body 10.3x7.49mm, Pitch 1.27mm, IPC Medium Density)
footprint LT-SW-16_L (SOIC, 16-Leads, Body 10.3x7.49mm, Pitch 1.27mm, IPC High Density)
footprint LT-SW-16_M (SOIC, 16-Leads, Body 10.3x7.49mm, Pitch 1.27mm, IPC Low Density)
part A pins: 3 FB/SHDN (in), 4 CAP+ "Pin 2, the positive side of the input capacitor (CIN), is alternately driven between V + and ground. When driven to V+, Pin 2 sources current from V+. When driven to ground Pin 2 sinks current to ground. Pin 4, the negative (See Datasheet)", 5 GND (power), 6 CAP- "Pin 2, the positive side of the input capacitor (CIN), is alternately driven between V + and ground. When driven to V+, Pin 2 sources current from V+. When driven to ground Pin 2 sinks current to ground. Pin 4, the negative (See Datasheet)", 11 VOUT (power) "In addition to being the output pin this pin is also tied to the substrate of the device. Special care must be taken in LT1054 circuits to avoid pulling this pin positive with respect to any of the other pins. Pulling Pin 5 (See Datasheet)", 12 VREF (out) "Reference Output. This pin provides a 2.5V reference point for use in LT1054-based regulator circuits. The temperature coefficient of the reference voltage has been adjusted so that the temperature coefficient of the (See Datasheet)", 13 OSC "Oscillator Pin. This pin can be used to raise or lower the oscillator frequency or to synchronize the device to an external clock. Internally Pin 7 is connected to the oscillator timing capacitor (Ct  approx= 150pF) which is (See Datasheet)", 14 V+ (power) "Input Supply. The LT1054 alternately charges CIN to the input voltage when CIN is switched in parallel with the input supply and then transfers charge to COUT when CIN is switched in parallel with COUT. Switching occurs at (See Datasheet)"
part B pins: 1 NC, 2 NC, 7 NC, 8 NC, 9 NC, 10 NC, 15 NC, 16 NC

## LT1054CSW#PBF
designator U?
Switched-Capacitor Voltage Converter with Regulator, 3.5 to 15 V Vin, Adjustable Vout, 16-pin SOIC (SW-16), 0 to 100 degC, Pb-Free; Manufacturer: Linear Technology; PartNumber: LT1054CSW#PBF; Frequency(kHz): 25; Ishutdown(uA): 100; Isupply(mA): 2.5; Vin Max(V): 15; Vin Min(V): 3.5; Voutput: Adj; DatasheetVersion: Rev. G; PackageVersion: Jun-10; PackageReference: SW-16; PackageDescription: 16-Pin Plastic Small Outline, Body 10.30 x 7.49 mm, Pitch 1.27 mm; Supplier 1: Digi-Key; Supplier Part Number 1: LT1054CSW#PBF-ND; Supplier 2: Newark; Supplier Part Number 2: 57M1184; Max Iout(mA): 100; RoHS: TRUE; Mounting Technology: Surface Mount; ComponentLink1Description: Manufacturer URL; ComponentLink1URL: http://www.linear.com/; ComponentLink2Description: Datasheet; ComponentLink2URL: http://cds.linear.com/docs/en/datasheet/1054lfg.pdf; ComponentLink3Description: Package Specification; ComponentLink3URL: http://www.linear.com/docs/en/packaging/SO_16_05-08-1620.pdf
footprint LT-SW-16_N (SOIC, 16-Leads, Body 10.3x7.49mm, Pitch 1.27mm, IPC Medium Density)
footprint LT-SW-16_L (SOIC, 16-Leads, Body 10.3x7.49mm, Pitch 1.27mm, IPC High Density)
footprint LT-SW-16_M (SOIC, 16-Leads, Body 10.3x7.49mm, Pitch 1.27mm, IPC Low Density)
part A pins: 3 FB/SHDN (in), 4 CAP+ "Pin 2, the positive side of the input capacitor (CIN), is alternately driven between V + and ground. When driven to V+, Pin 2 sources current from V+. When driven to ground Pin 2 sinks current to ground. Pin 4, the negative (See Datasheet)", 5 GND (power), 6 CAP- "Pin 2, the positive side of the input capacitor (CIN), is alternately driven between V + and ground. When driven to V+, Pin 2 sources current from V+. When driven to ground Pin 2 sinks current to ground. Pin 4, the negative (See Datasheet)", 11 VOUT (power) "In addition to being the output pin this pin is also tied to the substrate of the device. Special care must be taken in LT1054 circuits to avoid pulling this pin positive with respect to any of the other pins. Pulling Pin 5 (See Datasheet)", 12 VREF (out) "Reference Output. This pin provides a 2.5V reference point for use in LT1054-based regulator circuits. The temperature coefficient of the reference voltage has been adjusted so that the temperature coefficient of the (See Datasheet)", 13 OSC "Oscillator Pin. This pin can be used to raise or lower the oscillator frequency or to synchronize the device to an external clock. Internally Pin 7 is connected to the oscillator timing capacitor (Ct  approx= 150pF) which is (See Datasheet)", 14 V+ (power) "Input Supply. The LT1054 alternately charges CIN to the input voltage when CIN is switched in parallel with the input supply and then transfers charge to COUT when CIN is switched in parallel with COUT. Switching occurs at (See Datasheet)"
part B pins: 1 NC, 2 NC, 7 NC, 8 NC, 9 NC, 10 NC, 15 NC, 16 NC

## LT1054CSW#TR
designator U?
Switched-Capacitor Voltage Converter with Regulator, 3.5 to 15 V Vin, Adjustable Vout, 16-pin SOIC (SW-16), 0 to 100 degC, Tape and Reel; Manufacturer: Linear Technology; PartNumber: LT1054CSW#TR; Frequency(kHz): 25; Ishutdown(uA): 100; Isupply(mA): 2.5; Vin Max(V): 15; Vin Min(V): 3.5; Voutput: Adj; DatasheetVersion: Rev. G; PackageVersion: Jun-10; PackageReference: SW-16; PackageDescription: 16-Pin Plastic Small Outline, Body 10.30 x 7.49 mm, Pitch 1.27 mm; Supplier 1: Digi-Key; Supplier Part Number 1: LT1054CSW#TR-ND; Max Iout(mA): 100; Packing: Tape and Reel; RoHS: FALSE; Mounting Technology: Surface Mount; ComponentLink1Description: Manufacturer URL; ComponentLink1URL: http://www.linear.com/; ComponentLink2Description: Datasheet; ComponentLink2URL: http://cds.linear.com/docs/en/datasheet/1054lfg.pdf; ComponentLink3Description: Package Specification; ComponentLink3URL: http://www.linear.com/docs/en/packaging/SO_16_05-08-1620.pdf
footprint LT-SW-16_N (SOIC, 16-Leads, Body 10.3x7.49mm, Pitch 1.27mm, IPC Medium Density)
footprint LT-SW-16_L (SOIC, 16-Leads, Body 10.3x7.49mm, Pitch 1.27mm, IPC High Density)
footprint LT-SW-16_M (SOIC, 16-Leads, Body 10.3x7.49mm, Pitch 1.27mm, IPC Low Density)
part A pins: 3 FB/SHDN (in), 4 CAP+ "Pin 2, the positive side of the input capacitor (CIN), is alternately driven between V + and ground. When driven to V+, Pin 2 sources current from V+. When driven to ground Pin 2 sinks current to ground. Pin 4, the negative (See Datasheet)", 5 GND (power), 6 CAP- "Pin 2, the positive side of the input capacitor (CIN), is alternately driven between V + and ground. When driven to V+, Pin 2 sources current from V+. When driven to ground Pin 2 sinks current to ground. Pin 4, the negative (See Datasheet)", 11 VOUT (power) "In addition to being the output pin this pin is also tied to the substrate of the device. Special care must be taken in LT1054 circuits to avoid pulling this pin positive with respect to any of the other pins. Pulling Pin 5 (See Datasheet)", 12 VREF (out) "Reference Output. This pin provides a 2.5V reference point for use in LT1054-based regulator circuits. The temperature coefficient of the reference voltage has been adjusted so that the temperature coefficient of the (See Datasheet)", 13 OSC "Oscillator Pin. This pin can be used to raise or lower the oscillator frequency or to synchronize the device to an external clock. Internally Pin 7 is connected to the oscillator timing capacitor (Ct  approx= 150pF) which is (See Datasheet)", 14 V+ (power) "Input Supply. The LT1054 alternately charges CIN to the input voltage when CIN is switched in parallel with the input supply and then transfers charge to COUT when CIN is switched in parallel with COUT. Switching occurs at (See Datasheet)"
part B pins: 1 NC, 2 NC, 7 NC, 8 NC, 9 NC, 10 NC, 15 NC, 16 NC

## LT1054CSW#TRPBF
designator U?
Switched-Capacitor Voltage Converter with Regulator, 3.5 to 15 V Vin, Adjustable Vout, 16-pin SOIC (SW-16), 0 to 100 degC, Pb-Free, Tape and Reel; Manufacturer: Linear Technology; PartNumber: LT1054CSW#TRPBF; Frequency(kHz): 25; Ishutdown(uA): 100; Isupply(mA): 2.5; Vin Max(V): 15; Vin Min(V): 3.5; Voutput: Adj; DatasheetVersion: Rev. G; PackageVersion: Jun-10; PackageReference: SW-16; PackageDescription: 16-Pin Plastic Small Outline, Body 10.30 x 7.49 mm, Pitch 1.27 mm; Supplier 1: Digi-Key; Supplier Part Number 1: LT1054CSW#TRPBF-ND; Max Iout(mA): 100; Packing: Tape and Reel; RoHS: TRUE; Mounting Technology: Surface Mount; ComponentLink1Description: Manufacturer URL; ComponentLink1URL: http://www.linear.com/; ComponentLink2Description: Datasheet; ComponentLink2URL: http://cds.linear.com/docs/en/datasheet/1054lfg.pdf; ComponentLink3Description: Package Specification; ComponentLink3URL: http://www.linear.com/docs/en/packaging/SO_16_05-08-1620.pdf
footprint LT-SW-16_N (SOIC, 16-Leads, Body 10.3x7.49mm, Pitch 1.27mm, IPC Medium Density)
footprint LT-SW-16_L (SOIC, 16-Leads, Body 10.3x7.49mm, Pitch 1.27mm, IPC High Density)
footprint LT-SW-16_M (SOIC, 16-Leads, Body 10.3x7.49mm, Pitch 1.27mm, IPC Low Density)
part A pins: 3 FB/SHDN (in), 4 CAP+ "Pin 2, the positive side of the input capacitor (CIN), is alternately driven between V + and ground. When driven to V+, Pin 2 sources current from V+. When driven to ground Pin 2 sinks current to ground. Pin 4, the negative (See Datasheet)", 5 GND (power), 6 CAP- "Pin 2, the positive side of the input capacitor (CIN), is alternately driven between V + and ground. When driven to V+, Pin 2 sources current from V+. When driven to ground Pin 2 sinks current to ground. Pin 4, the negative (See Datasheet)", 11 VOUT (power) "In addition to being the output pin this pin is also tied to the substrate of the device. Special care must be taken in LT1054 circuits to avoid pulling this pin positive with respect to any of the other pins. Pulling Pin 5 (See Datasheet)", 12 VREF (out) "Reference Output. This pin provides a 2.5V reference point for use in LT1054-based regulator circuits. The temperature coefficient of the reference voltage has been adjusted so that the temperature coefficient of the (See Datasheet)", 13 OSC "Oscillator Pin. This pin can be used to raise or lower the oscillator frequency or to synchronize the device to an external clock. Internally Pin 7 is connected to the oscillator timing capacitor (Ct  approx= 150pF) which is (See Datasheet)", 14 V+ (power) "Input Supply. The LT1054 alternately charges CIN to the input voltage when CIN is switched in parallel with the input supply and then transfers charge to COUT when CIN is switched in parallel with COUT. Switching occurs at (See Datasheet)"
part B pins: 1 NC, 2 NC, 7 NC, 8 NC, 9 NC, 10 NC, 15 NC, 16 NC

## LT1054IN8
designator U?
Switched-Capacitor Voltage Converter with Regulator, 3.5 to 15 V Vin, Adjustable Vout, 8-pin DIP (N8-8), -40 to 100 degC; Manufacturer: Linear Technology; PartNumber: LT1054IN8; Frequency(kHz): 25; Ishutdown(uA): 100; Isupply(mA): 2.5; Vin Max(V): 15; Vin Min(V): 3.5; Voutput: Adj; DatasheetVersion: Rev. G; PackageVersion: Rev. I, 07/2011; PackageReference: N8-8; PackageDescription: 8-Pin PDIP, Body 10.16 x 6.48 mm, Pitch 2.54 mm; Supplier 1: Digi-Key; Supplier Part Number 1: LT1054IN8-ND; Max Iout(mA): 100; RoHS: FALSE; Mounting Technology: Through Hole; ComponentLink1Description: Manufacturer URL; ComponentLink1URL: http://www.linear.com/; ComponentLink2Description: Datasheet; ComponentLink2URL: http://cds.linear.com/docs/en/datasheet/1054lfg.pdf; ComponentLink3Description: Package Specification; ComponentLink3URL: http://www.linear.com/docs/en/packaging/05081510_I_N8.pdf
footprint LT-N8-8 (DIP, 8-Leads, Body 10.15x6.85mm, Pitch 2.54mm)
pins: 1 FB/SHDN (in), 2 CAP+ "Pin 2, the positive side of the input capacitor (CIN), is alternately driven between V + and ground. When driven to V+, Pin 2 sources current from V+. When driven to ground Pin 2 sinks current to ground. Pin 4, the negative (See Datasheet)", 3 GND (power), 4 CAP- "Pin 2, the positive side of the input capacitor (CIN), is alternately driven between V + and ground. When driven to V+, Pin 2 sources current from V+. When driven to ground Pin 2 sinks current to ground. Pin 4, the negative (See Datasheet)", 5 VOUT (power) "In addition to being the output pin this pin is also tied to the substrate of the device. Special care must be taken in LT1054 circuits to avoid pulling this pin positive with respect to any of the other pins. Pulling Pin 5 (See Datasheet)", 6 VREF (out) "Reference Output. This pin provides a 2.5V reference point for use in LT1054-based regulator circuits. The temperature coefficient of the reference voltage has been adjusted so that the temperature coefficient of the (See Datasheet)", 7 OSC "Oscillator Pin. This pin can be used to raise or lower the oscillator frequency or to synchronize the device to an external clock. Internally Pin 7 is connected to the oscillator timing capacitor (Ct  approx= 150pF) which is (See Datasheet)", 8 V+ (power) "Input Supply. The LT1054 alternately charges CIN to the input voltage when CIN is switched in parallel with the input supply and then transfers charge to COUT when CIN is switched in parallel with COUT. Switching occurs at (See Datasheet)"

## LT1054IN8#PBF
designator U?
Switched-Capacitor Voltage Converter with Regulator, 3.5 to 15 V Vin, Adjustable Vout, 8-pin DIP (N8-8), -40 to 100 degC, Pb-Free; Manufacturer: Linear Technology; PartNumber: LT1054IN8#PBF; Frequency(kHz): 25; Ishutdown(uA): 100; Isupply(mA): 2.5; Vin Max(V): 15; Vin Min(V): 3.5; Voutput: Adj; DatasheetVersion: Rev. G; PackageVersion: Rev. I, 07/2011; PackageReference: N8-8; PackageDescription: 8-Pin PDIP, Body 10.16 x 6.48 mm, Pitch 2.54 mm; Supplier 1: Digi-Key; Supplier Part Number 1: LT1054IN8#PBF-ND; Supplier 2: Farnell; Supplier Part Number 2: 1663340; Supplier 3: Newark; Supplier Part Number 3: 57M1192; Max Iout(mA): 100; RoHS: TRUE; Mounting Technology: Through Hole; ComponentLink1Description: Manufacturer URL; ComponentLink1URL: http://www.linear.com/; ComponentLink2Description: Datasheet; ComponentLink2URL: http://cds.linear.com/docs/en/datasheet/1054lfg.pdf; ComponentLink3Description: Package Specification; ComponentLink3URL: http://www.linear.com/docs/en/packaging/05081510_I_N8.pdf
footprint LT-N8-8 (DIP, 8-Leads, Body 10.15x6.85mm, Pitch 2.54mm)
pins: 1 FB/SHDN (in), 2 CAP+ "Pin 2, the positive side of the input capacitor (CIN), is alternately driven between V + and ground. When driven to V+, Pin 2 sources current from V+. When driven to ground Pin 2 sinks current to ground. Pin 4, the negative (See Datasheet)", 3 GND (power), 4 CAP- "Pin 2, the positive side of the input capacitor (CIN), is alternately driven between V + and ground. When driven to V+, Pin 2 sources current from V+. When driven to ground Pin 2 sinks current to ground. Pin 4, the negative (See Datasheet)", 5 VOUT (power) "In addition to being the output pin this pin is also tied to the substrate of the device. Special care must be taken in LT1054 circuits to avoid pulling this pin positive with respect to any of the other pins. Pulling Pin 5 (See Datasheet)", 6 VREF (out) "Reference Output. This pin provides a 2.5V reference point for use in LT1054-based regulator circuits. The temperature coefficient of the reference voltage has been adjusted so that the temperature coefficient of the (See Datasheet)", 7 OSC "Oscillator Pin. This pin can be used to raise or lower the oscillator frequency or to synchronize the device to an external clock. Internally Pin 7 is connected to the oscillator timing capacitor (Ct  approx= 150pF) which is (See Datasheet)", 8 V+ (power) "Input Supply. The LT1054 alternately charges CIN to the input voltage when CIN is switched in parallel with the input supply and then transfers charge to COUT when CIN is switched in parallel with COUT. Switching occurs at (See Datasheet)"

## LT1054IS8
designator U?
Switched-Capacitor Voltage Converter with Regulator, 3.5 to 15 V Vin, Adjustable Vout, 8-pin SOIC (S8-8), -40 to 100 degC; Manufacturer: Linear Technology; PartNumber: LT1054IS8; Frequency(kHz): 25; Ishutdown(uA): 100; Isupply(mA): 2.5; Vin Max(V): 15; Vin Min(V): 3.5; Voutput: Adj; DatasheetVersion: Rev. G; PackageVersion: Rev. G, 03/2012; PackageReference: S8-8; PackageDescription: 8-Pin Plastic Small Outline (Narrow .150 Inch), Body 4.9 x 3.9 mm, Pitch 1.27 mm; Supplier 1: Digi-Key; Supplier Part Number 1: LT1054IS8-ND; Max Iout(mA): 100; RoHS: FALSE; Mounting Technology: Surface Mount; ComponentLink1Description: Manufacturer URL; ComponentLink1URL: http://www.linear.com/; ComponentLink2Description: Datasheet; ComponentLink2URL: http://cds.linear.com/docs/en/datasheet/1054lfg.pdf; ComponentLink3Description: Package Specification; ComponentLink3URL: http://cds.linear.com/docs/en/packaging/05081610_G_SO8.pdf
footprint LT-S8-8_N (SOIC, 8-Leads, Body 5x4mm, Pitch 1.27mm, IPC Medium Density)
footprint LT-S8-8_L (SOIC, 8-Leads, Body 5x4mm, Pitch 1.27mm, IPC High Density)
footprint LT-S8-8_M (SOIC, 8-Leads, Body 5x4mm, Pitch 1.27mm, IPC Low Density)
pins: 1 FB/SHDN (in), 2 CAP+ "Pin 2, the positive side of the input capacitor (CIN), is alternately driven between V + and ground. When driven to V+, Pin 2 sources current from V+. When driven to ground Pin 2 sinks current to ground. Pin 4, the negative (See Datasheet)", 3 GND (power), 4 CAP- "Pin 2, the positive side of the input capacitor (CIN), is alternately driven between V + and ground. When driven to V+, Pin 2 sources current from V+. When driven to ground Pin 2 sinks current to ground. Pin 4, the negative (See Datasheet)", 5 VOUT (power) "In addition to being the output pin this pin is also tied to the substrate of the device. Special care must be taken in LT1054 circuits to avoid pulling this pin positive with respect to any of the other pins. Pulling Pin 5 (See Datasheet)", 6 VREF (out) "Reference Output. This pin provides a 2.5V reference point for use in LT1054-based regulator circuits. The temperature coefficient of the reference voltage has been adjusted so that the temperature coefficient of the (See Datasheet)", 7 OSC "Oscillator Pin. This pin can be used to raise or lower the oscillator frequency or to synchronize the device to an external clock. Internally Pin 7 is connected to the oscillator timing capacitor (Ct  approx= 150pF) which is (See Datasheet)", 8 V+ (power) "Input Supply. The LT1054 alternately charges CIN to the input voltage when CIN is switched in parallel with the input supply and then transfers charge to COUT when CIN is switched in parallel with COUT. Switching occurs at (See Datasheet)"